# EAGLE library part 6BK8-P (library old Tubes)
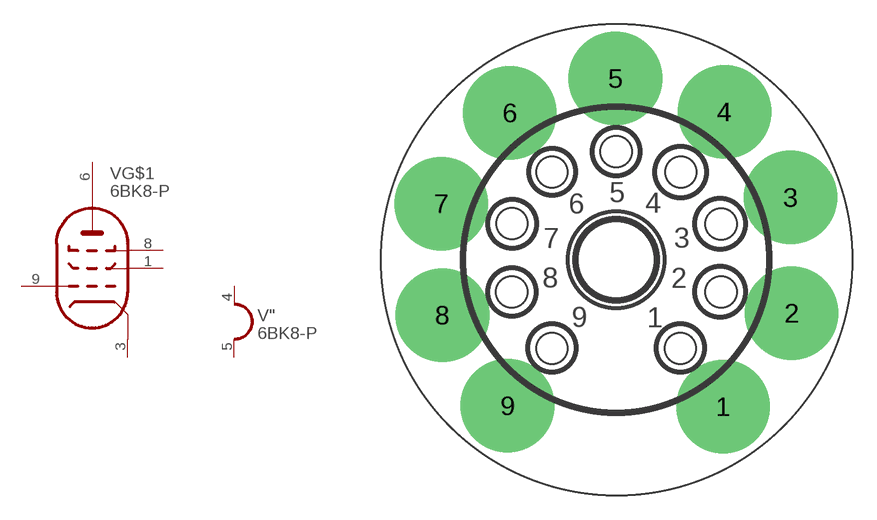
[diagram p55: symbol with the pads of NOVAL; footprint NOVAL]

Designator prefix V; gates G$1=PENTODE/ "=HEATER_1

## 6BK8-P  [NOVAL]
1  G$1:PSG  pas
3  G$1:PK  pas
4  ":H1  pas
5  ":H2  pas
6  G$1:PA  pas
8  G$1:PBG  pas
9  G$1:PG  pas

## Footprint NOVAL (pad centres in mm)
drill 2 pad 5.842: 1 6.682,-9.176; 2 10.961,-3.335; 3 10.884,3.896; 4 6.763,9.239; 5 -0.047,11.334; 6 -6.646,9.182; 7 -10.936,3.508; 8 -10.847,-3.457; 9 -6.788,-9.12